# Altium footprint library NICELO_ED01r2.PcbLib: 28 footprints (part 1 of 2)
Each footprint in its own frame and in the unit in brackets; x right, y up, seen from the top. Pads: shape width x height; smd on the part's side, far side on the other; paste and mask are expansions set on the pad; w line width, h text height; cw(c..) or ccw(c..) is an arc to the next point about the centre after c.
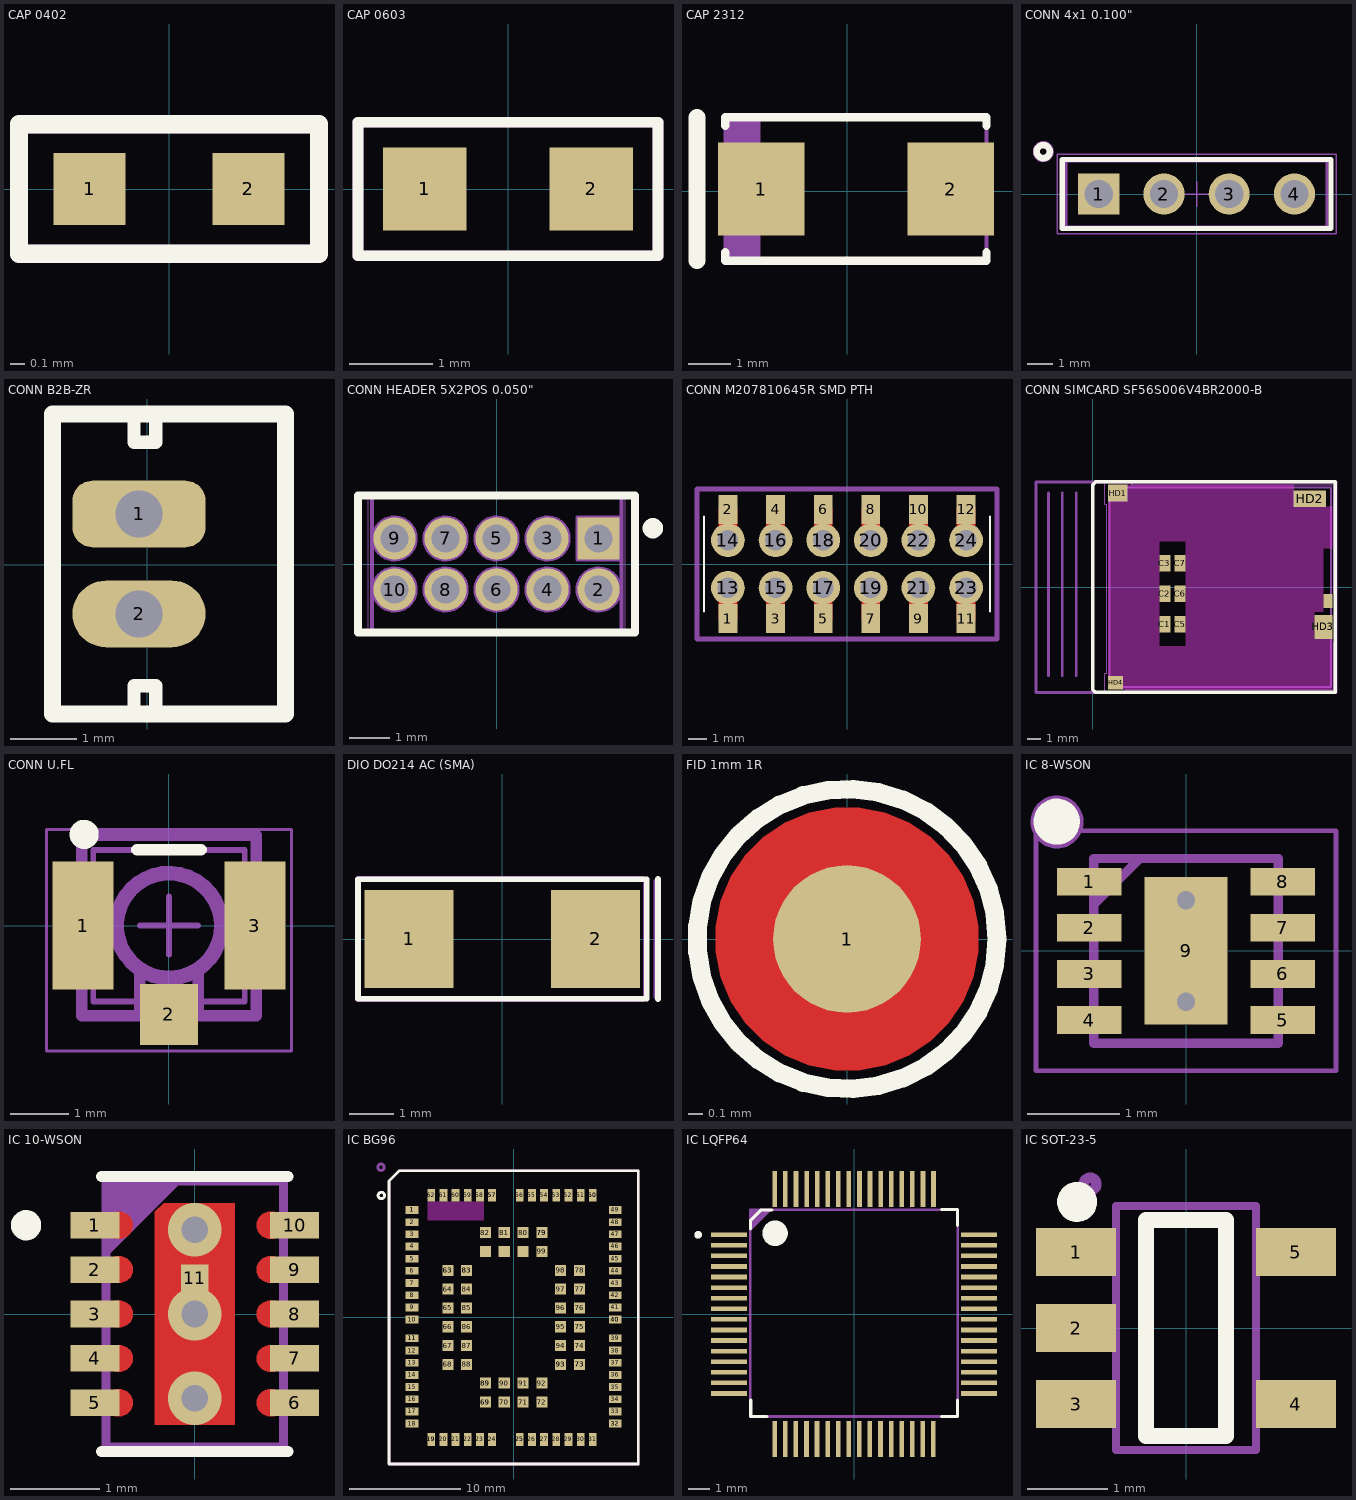
[diagram p0: the footprints below, top view; thin cyan lines are the x and y axes]

## CAP 0402 [mm]
pads (2):
  rect 0.5x0.5 smd mask+0.1: 1(-0.55,0) 2(0.55,0)
Top Overlay:
  lines w0.127: -1.04,-0.45 1.04,-0.45 1.04,0.45 -1.04,0.45 -1.04,-0.45
Top Assembly:
  lines w0.127: -1.04,-0.45 1.04,-0.45 1.04,0.45 -1.04,0.45 -1.04,-0.45
  text "'.Designator'" at -0.965,-0.152 h0.7
3D body "Capacitor_0402.stp": height 0.56, standoff 0.01, extent -0.525,-0.271 0.525,0.279
3D body: height 0.25, standoff 0, extent 0,0 0,0

## CAP 0603 [mm]
pads (2):
  rect 1x1 smd mask+0.1: 1(-1,0) 2(1,0)
Top Overlay:
  lines w0.127: -1.8,-0.8 1.8,-0.8 1.8,0.8 -1.8,0.8 -1.8,-0.8
Top Assembly:
  lines w0.127: -1.8,-0.8 -1.8,0.8 1.8,0.8 1.8,-0.8 -1.8,-0.8
  text "'.Designator'" at -1.676,-0.178 h1.27
3D body "capacitor_0603.stp": height 0.88, standoff 0.01, extent -0.875,-0.467 0.875,0.483

## CAP 2312 [mm]
pads (2):
  rect 2.05x2.2 smd: 1(-2.047,0.051) 2(2.453,0.051)
Top Overlay:
  lines w0.2: -2.897,-1.449 -2.897,-1.649 3.303,-1.649 3.303,-1.449 ; -2.897,1.551 -2.897,1.751 3.303,1.751 3.303,1.551
  lines w0.4: -3.572,-1.649 -3.572,1.751
Top Assembly:
  rectangle: -2.897,-1.649 -2.063,1.751
  lines w0.1: -2.897,-1.649 -2.897,1.751 3.303,1.751 3.303,-1.649 -2.897,-1.649
  text "'.Designator'" at -2.667,-0.254 h1.27
3D body "CAPMP6032X28L.step": height 2.8, standoff 0, extent -3.117,-1.649 3.523,1.751

## CONN 4x1 0.100" [mm]
pads (4):
  rect 1.6x1.6 hole 1.1 paste+0: 1(-3.81,0)
  round 1.6 hole 1.1: 2(-1.27,0) 3(1.27,0) 4(3.81,0)
Top Overlay:
  circle w0.254: c-5.969,1.651 r0.254
  lines w0.2: -5.23,-1.345 -5.23,1.345 5.23,1.345 5.23,-1.345 -5.23,-1.345
Mechanical 13:
  lines w0.1: -5.08,-1.27 5.08,-1.27 5.08,1.27 -5.08,1.27 -5.08,-1.27
Top Assembly:
  circle w0.254: c-5.969,1.651 r0.284
  lines w0.05: -0.5,0 0.5,0 ; 0,-0.5 0,0.5 ; -5.43,-1.545 5.43,-1.545 5.43,1.545 -5.43,1.545 -5.43,-1.545
  text "'.Designator'" at -4.826,-0.508 h2
3D body "61300411121.stp": height 8.57, standoff -2.97, extent -5.08,-1.27 5.08,1.27

## CONN B2B-ZR [mm]
pads (2):
  rrect60% 2x1 hole 0.7: 1(-0.127,0.762)
  oval 2x1 hole 0.7: 2(-0.127,-0.738)
Top Overlay:
  lines w0.2: -0.203,-2.239 -0.203,-1.816 0.123,-1.816 0.123,-2.238 ; -0.203,2.261 -0.203,1.838 0.123,1.838 0.123,2.262
  lines w0.254: -1.427,-2.238 2.073,-2.238 2.073,2.262 -1.427,2.262 -1.427,-2.238
Top Assembly:
  lines w0.127: -0.202,-2.238 -0.202,-1.788 ; -0.202,1.812 -0.202,2.262 ; -1.427,-2.238 2.073,-2.238 2.073,2.262 -1.427,2.262 -1.427,-2.238
  text "'.Designator'" at -1.277,-0.463 h1.27
3D body "B2B-ZR(LF)(SN).step": height 4.51, standoff -2.69, extent -1.427,-2.238 2.073,2.262

## CONN HEADER 5X2POS 0.050" [mm]
pads (10):
  rect 1.05x1.05 hole 0.7 mask+0: 1(2.54,0.635)
  round 1.05 hole 0.7 mask+0: 2(2.54,-0.635) 3(1.27,0.635) 4(1.27,-0.635) 5(0,0.635) 6(0,-0.635) 7(-1.27,0.635) 8(-1.27,-0.635) 9(-2.54,0.635) 10(-2.54,-0.635)
Top Overlay:
  circle w0.254: c3.89,0.89 r0.127
  lines w0.2: -3.45,-1.7 3.45,-1.7 3.45,1.7 -3.45,1.7 -3.45,-1.7
Mechanical 1:
  circle w0.1: c-2.54,-0.635 r0.525
  circle w0.1: c-2.54,0.635 r0.525
  circle w0.1: c-1.27,-0.635 r0.525
  circle w0.1: c-1.27,0.635 r0.525
  circle w0.1: c0,-0.635 r0.525
  circle w0.1: c0,0.635 r0.525
  circle w0.1: c1.27,-0.635 r0.525
  circle w0.1: c1.27,0.635 r0.525
  circle w0.1: c2.54,-0.635 r0.525
  lines w0.1: -3.105,-1.714 3.105,-1.714 3.105,1.715 -3.105,1.715 -3.105,-1.714 ; 2.015,0.11 2.015,1.16 3.065,1.16 3.065,0.11 2.015,0.11
Mechanical 16:
  lines w0.001: -3.2,-1.714 3.2,-1.714 3.2,1.715 -3.2,1.715 -3.2,-1.714
Top Assembly:
  lines w0.127: -3.45,-1.701 -3.45,1.703 3.459,1.703 3.459,-1.701 -3.45,-1.701
  text "'.Designator'" at -3.12,-0.38 h1.27
3D body "FTSH-105-04-L-D.stp": height 6.34, standoff -2.27, extent -3.16,-1.719 3.19,1.71

## CONN M207810645R SMD PTH [mm]
pads (24):
  rect 1x1.56 smd: 1(-6.35,-2.91) 2(-6.35,2.91) 3(-3.81,-2.91) 4(-3.81,2.91) 5(-1.27,-2.91) 6(-1.27,2.91) 7(1.27,-2.91) 8(1.27,2.91) 9(3.81,-2.91) 10(3.81,2.91) 11(6.35,-2.91) 12(6.35,2.91)
  round 1.8 hole 1.1: 13(-6.35,-1.27) 14(-6.35,1.27) 15(-3.81,-1.27) 16(-3.81,1.27) 17(-1.27,-1.27) 18(-1.27,1.27) 19(1.27,-1.27) 20(1.27,1.27) 21(3.81,-1.27) 22(3.81,1.27) 23(6.35,-1.27) 24(6.35,1.27)
Top Layer:
  lines w1: -6.35,-2.91 -6.35,-1.27 -6.35,-1.46 ; -6.35,1.27 -6.35,2.91 ; -3.81,-2.91 -3.81,-1.27 ; -3.81,1.27 -3.81,2.91 ; -1.27,-2.91 -1.27,-1.27 ; -1.27,1.27 -1.27,2.91 ; 1.27,-2.91 1.27,-1.27 ; 1.27,1.27 1.27,2.91 ; 3.81,-2.91 3.81,-1.27 ; 3.81,1.27 3.81,2.91 ; 6.35,-2.91 6.35,-1.27 ; 6.35,1.27 6.35,2.91
Top Overlay:
  lines w0.1: -7.62,-2.54 -7.62,2.54 ; 7.62,-2.54 7.62,2.54
Top Assembly:
  lines w0.254: -8,-4 8,-4 8,4 -8,4 -8,-4
  text "'.Designator'" at -7.366,0 h2
3D body "M20-7810645R.stp": height 3.1, standoff -1.7, extent -7.62,-3.698 7.62,3.698

## CONN SIMCARD SF56S006V4BR2000-B [mm]
pads (11):
  rect 0.8x1.2 smd mask+0.025: C1(5.21,-2.66) C2(5.21,-0.47) C3(5.21,1.72) C5(6.31,-2.66) C6(6.31,-0.47) C7(6.31,1.72)
  rect 0.65x1 smd: DSW2(16.975,-1)
  rect 1.4x1.2 smd: HD1(1.8,6.8)
  rect 2.35x1.2 smd: HD2(15.675,6.4)
  rect 1.3x1.75 smd: HD3(16.65,-2.87)
  rect 1.1x1 smd: HD4(1.65,-6.9)
Top Layer keep-out:
  rectangle: 13.05,-1.8 16.65,2.8
  rectangle: 6.71,-3.72 11.71,2.8
  region: 4.81,-4.27 4.81,3.33 1.31,3.33 1.31,-4.27
  region: 1.31,-4.27 1.31,-4.27 1.31,-4.27 1.31,-4.27
  region: 5.606,10.458
  region: 5.837,10.954
  region: 1.1,6.2 1.1,3.33 6.71,3.33 6.71,2.8 17.3,2.8 17.3,5.8 14.5,5.8 14.5,7.4 2.5,7.4 2.5,6.2
  region: 1.31,3.33 1.1,3.33 1.1,-6.4 2.2,-6.4 2.2,-7.4 17.3,-7.4 17.3,-3.745 16,-3.745 16,-1.8 13.05,-1.8 13.05,2.8 11.71,2.8 11.71,-3.72 6.71,-3.72 6.71,-4.27 1.31,-4.27
Top Overlay:
  lines w0.254: 0,-7.4 0,7.4 0.05,7.45 0.15,7.55 0.2,7.6 17.5,7.6 17.5,-7.6 13.175,-7.6 4.525,-7.6 0.2,-7.6 0,-7.4
Mechanical 4:
  lines w0.127: 1.2,-7.2 17.2,-7.2 ; 1.2,-7.2 17.2,-7.2 ; 1.2,-7.2 1.2,7.2 ; 1.2,-7.2 1.2,7.2 ; 1.2,7.2 17.2,7.2 ; 1.2,7.2 17.2,7.2 ; 17.2,-7.2 17.2,7.2 ; 17.2,-7.2 17.2,7.2
Mechanical 16:
  lines w0.05: 0.85,-7.6 2.4,-7.6 2.4,-7.4 17.4,-7.4 17.4,-4 17.55,-4 17.55,-0.4 17.4,-0.4 17.4,7.4 2.8,7.4 2.8,7.6 0.85,7.6 0.85,6 1,6 1,-6.2 0.85,-6.2 0.85,-7.6
Top Assembly:
  lines w0.2: -3.2,-6.4 -3.2,6.8 ; -2.2,-6.4 -2.2,6.8 ; -1.2,-6.4 -1.2,6.8 ; 0,-7.6 0,7.6 ; 0,-7.6 -4.1,-7.6 -4.1,7.6 0,7.6 ; 0,-7.6 17.562,-7.6 17.562,7.6 0,7.6
  text "'.Designator'" at 6.31,-0.47 h1.27
3D body: height 1.25, standoff 0, extent 1.276,-7.2 17.2,7.2

## CONN U.FL [mm]
pads (3):
  rect 1.05x2.2 smd: 1(-1.475,0) 3(1.475,0)
  rect 1x1.05 smd: 2(0,-1.525)
Top Overlay:
  circle w0.25: c-1.457,1.565 r0.125
  lines w0.2: -0.55,1.3 0.55,1.3
Mechanical 13:
  lines w0.1: -1.3,-1.3 1.3,-1.3 1.3,1.3 -1.3,1.3 -1.3,-1.3
Mechanical 15:
  lines w0.05: -2.1,-2.15 2.1,-2.15 2.1,1.65 -2.1,1.65 -2.1,-2.15
  lines w0.1: -0.5,0 0.5,0
Top Assembly:
  circle w0.254: c0,0 r0.9
  lines w0.1: 0,-0.5 0,0.5
  lines w0.2: -0.5,-0.748 -0.5,-1.525 0.5,-1.525 0.5,-0.748 ; 1.475,-1.55 -1.5,-1.55 -1.5,1.55 1.5,1.55 1.5,-1.55
  text "'.Designator'" at -3.937,-0.38 h1.52
3D body "c-1909763-1-b-3d.stp": height 1.23, standoff 0, extent -1.5,-1.55 1.5,1.55

## DIO DO214 AC (SMA) [mm]
pads (2):
  rect 2x2.2 smd mask+0.1: 1(-2.1,0) 2(2.1,0)
Top Overlay:
  lines w0.127: 3.505,-1.35 3.505,1.35 ; -3.251,-1.344 3.252,-1.35 3.252,1.343 3.252,1.348 -3.251,1.348 -3.251,-1.344
Top Assembly:
  lines w0.127: -3.251,-1.35 3.15,-1.35 ; -3.251,-1.348 -3.251,1.348 ; -3.251,1.35 3.15,1.35 ; 3.226,-1.295 3.226,1.249 ; 3.47,-1.3 3.47,1.3
  text "'.Designator'" at -3.023,-0.356 h1.27
3D body: height 6, standoff 1, extent -2.2,-0.85 -2.2,-0.85
3D body "DO214AC_SMA.STEP": height 2.3, standoff 0.01, extent -2.743,-1.397 2.743,1.397

## FID 1mm 1R [mm]
pads (1):
  round 1 smd paste-1: 1(0,0)
Top Layer:
  pour cut-out: 0,-0.889 -0.088,-0.889 -0.259,-0.855 -0.421,-0.788 -0.567,-0.691 -0.691,-0.567 -0.788,-0.421 -0.855,-0.259 -0.889,-0.088 -0.889,0 -0.889,0.088 -0.855,0.259 -0.788,0.421 -0.691,0.567 -0.567,0.691 -0.421,0.788 -0.259,0.855 -0.088,0.889 0,0.889 0.088,0.889 0.259,0.855 0.421,0.788 0.567,0.691 0.691,0.567 0.788,0.421 0.855,0.259 0.889,0.088 0.889,0 0.889,-0.088 0.855,-0.259 0.788,-0.421 0.691,-0.567 0.567,-0.691 0.421,-0.788 0.259,-0.855 0.088,-0.889
Top Overlay:
  circle w0.127: c0,0 r1.016
Top Solder:
  circle w0.152: c0,0 r0.813
  region: 0,-0.813 -0.08,-0.813 -0.237,-0.782 -0.385,-0.72 -0.518,-0.631 -0.631,-0.518 -0.72,-0.385 -0.782,-0.237 -0.813,-0.08 -0.813,0 -0.813,0.08 -0.782,0.237 -0.72,0.385 -0.631,0.518 -0.518,0.631 -0.385,0.72 -0.237,0.782 -0.08,0.813 0,0.813 0.08,0.813 0.237,0.782 0.385,0.72 0.518,0.631 0.631,0.518 0.72,0.385 0.782,0.237 0.813,0.08 0.813,0 0.813,-0.08 0.782,-0.237 0.72,-0.385 0.631,-0.518 0.518,-0.631 0.385,-0.72 0.237,-0.782 0.08,-0.813
Top Assembly:
  text "'.Designator'" at -3.81,-0.38 h1.52

## IC 8-WSON [mm]
pads (9):
  rect 0.7x0.3 smd mask+0: 1(-1.05,0.75) 2(-1.05,0.25) 3(-1.05,-0.25) 4(-1.05,-0.75) 5(1.05,-0.75) 6(1.05,-0.25) 7(1.05,0.25) 8(1.05,0.75)
  rect 0.9x1.6 smd paste+0 mask+0: 9(0,0)
via 0,0.55 diameter 0.4 hole 0.2
via 0,-0.55 diameter 0.4 hole 0.2
Top Overlay:
  circle w0.25: c-1.4,1.4 r0.125
Mechanical 13:
  lines w0.1: -1,0.5 -0.5,1 ; -1,-1 1,-1 1,1 -1,1 -1,-1
Top Assembly:
  circle w0.254: c-1.397,1.397 r0.16
  lines w0.05: -1.625,-1.3 1.625,-1.3 1.625,1.3 -1.625,1.3 -1.625,-1.3
  text "'.Designator'" at -3.81,-0.254 h1.27
3D body "TPS22965DSGR.stp": height 0.8, standoff 0, extent -1.05,-1 1.05,1

## IC 10-WSON [mm]
pads (12):
  rect 0.55x0.3 smd mask+0: 1(-1.125,1) 2(-1.125,0.5) 3(-1.125,0) 4(-1.125,-0.5) 5(-1.125,-1) 6(1.125,-1) 7(1.125,-0.5) 8(1.125,0) 9(1.125,0.5) 10(1.125,1)
  rect 0.31x0.31 smd paste-10 mask+0: 11(0,0.4)
  rect 0.1x0.1 smd: 11(0,0.4)
via 0,0 diameter 0.6 hole 0.3
via 0,0.95 diameter 0.6 hole 0.3
via 0,-0.95 diameter 0.6 hole 0.3
Top Layer:
  region: -0.85,1
  region: -0.45,1.15 -0.35,1.25 0.45,1.25 0.45,-1.25 -0.45,-1.25
  region: -1.05,-0.5
  region: -0.7,-1 -0.7,-0.97 -0.723,-0.915 -0.765,-0.873 -0.82,-0.85 -0.85,-0.85 -0.9,-0.85 -0.9,-1.15 -0.85,-1.15 -0.82,-1.15 -0.765,-1.127 -0.723,-1.085 -0.7,-1.03
  region: -0.7,-0.5 -0.7,-0.47 -0.723,-0.415 -0.765,-0.373 -0.82,-0.35 -0.85,-0.35 -0.9,-0.35 -0.9,-0.65 -0.85,-0.65 -0.82,-0.65 -0.765,-0.627 -0.723,-0.585 -0.7,-0.53
  region: -0.7,0 -0.7,0.03 -0.723,0.085 -0.765,0.127 -0.82,0.15 -0.85,0.15 -0.9,0.15 -0.9,-0.15 -0.85,-0.15 -0.82,-0.15 -0.765,-0.127 -0.723,-0.085 -0.7,-0.03
  region: -0.7,0.5 -0.7,0.53 -0.723,0.585 -0.765,0.627 -0.82,0.65 -0.85,0.65 -0.9,0.65 -0.9,0.35 -0.85,0.35 -0.82,0.35 -0.765,0.373 -0.723,0.415 -0.7,0.47
  region: -0.7,1 -0.7,1.03 -0.723,1.085 -0.765,1.127 -0.82,1.15 -0.85,1.15 -0.9,1.15 -0.9,0.85 -0.85,0.85 -0.82,0.85 -0.765,0.873 -0.723,0.915 -0.7,0.97
  region: 0.7,-1 0.7,-1.03 0.723,-1.085 0.765,-1.127 0.82,-1.15 0.85,-1.15 0.9,-1.15 0.9,-0.85 0.85,-0.85 0.82,-0.85 0.765,-0.873 0.723,-0.915 0.7,-0.97
  region: 0.7,-0.5 0.7,-0.53 0.723,-0.585 0.765,-0.627 0.82,-0.65 0.85,-0.65 0.9,-0.65 0.9,-0.35 0.85,-0.35 0.82,-0.35 0.765,-0.373 0.723,-0.415 0.7,-0.47
  region: 0.7,0 0.7,-0.03 0.723,-0.085 0.765,-0.127 0.82,-0.15 0.85,-0.15 0.9,-0.15 0.9,0.15 0.85,0.15 0.82,0.15 0.765,0.127 0.723,0.085 0.7,0.03
  region: 0.7,0.5 0.7,0.47 0.723,0.415 0.765,0.373 0.82,0.35 0.85,0.35 0.9,0.35 0.9,0.65 0.85,0.65 0.82,0.65 0.765,0.627 0.723,0.585 0.7,0.53
  region: 0.7,1 0.7,0.97 0.723,0.915 0.765,0.873 0.82,0.85 0.85,0.85 0.9,0.85 0.9,1.15 0.85,1.15 0.82,1.15 0.765,1.127 0.723,1.085 0.7,1.03
Top Overlay:
  circle w0.18: c-1.9,1 r0.08
  lines w0.127: -1.05,-1.55 1.05,-1.55 ; -1.05,1.55 1.05,1.55
Top Solder:
  region: -0.45,1.15 -0.35,1.25 0.45,1.25 0.45,-1.25 -0.45,-1.25
Top Assembly:
  lines w0.1: -1,0.7 -0.2,1.5 ; -1,0.8 -0.3,1.5 ; -1,0.9 -0.4,1.5 ; -1,1 -0.5,1.5 ; -1,1.1 -0.6,1.5 ; -1,1.2 -0.7,1.5 ; -1,1.3 -0.8,1.5 ; -1,1.4 -0.9,1.5 ; -1,-1.5 -1,1.5 1,1.5 1,-1.5 -1,-1.5
  text "'.Designator'" at -3.556,-0.127 h1.27
3D body: height 0.8, standoff 0, extent -1.05,-1.55 1.05,1.55

## IC BG96 [mm]
pads (117):
  rect 1.15x0.7 smd: 1(-9.18,9.7) 1(-9.18,9.7) 2(-9.18,8.6) 3(-9.18,7.5) 4(-9.18,6.4) 5(-9.18,5.3) 6(-9.18,4.2) 7(-9.18,3.1) 8(-9.18,2) 9(-9.18,0.9) 10(-9.18,-0.2) 11(-9.18,-1.9) 11(-9.18,-1.9) 12(-9.18,-3) 13(-9.18,-4.1) 14(-9.18,-5.2) 15(-9.18,-6.3) 16(-9.18,-7.4) 17(-9.18,-8.5) 18(-9.18,-9.6) 32(9.18,-9.6) 32(9.18,-9.6) 33(9.18,-8.5) 34(9.18,-7.4) 35(9.18,-6.3) 36(9.18,-5.2) 37(9.18,-4.1) 38(9.18,-3) 39(9.18,-1.9) 40(9.18,-0.2) 40(9.18,-0.2) 41(9.18,0.9) 42(9.18,2) 43(9.18,3.1) 44(9.18,4.2) 45(9.18,5.3) 46(9.18,6.4) 47(9.18,7.5) 48(9.18,8.6) 49(9.18,9.7)
  rect 0.7x1.15 smd: 19(-7.45,-11.03) 19(-7.45,-11.03) 20(-6.35,-11.03) 21(-5.25,-11.03) 22(-4.15,-11.03) 23(-3.05,-11.03) 24(-1.95,-11.03) 25(0.55,-11.03) 25(0.55,-11.03) 26(1.65,-11.03) 27(2.75,-11.03) 28(3.85,-11.03) 29(4.95,-11.03) 30(6.05,-11.03) 31(7.15,-11.03) 50(7.15,11.03) 50(7.15,11.03) 51(6.05,11.03) 52(4.95,11.03) 53(3.85,11.03) 54(2.75,11.03) 55(1.65,11.03) 56(0.55,11.03) 57(-1.95,11.03) 57(-1.95,11.03) 58(-3.05,11.03) 59(-4.15,11.03) 60(-5.25,11.03) 61(-6.35,11.03) 62(-7.45,11.03)
  rect 1x1 smd: 63(-5.95,4.25) 63(-5.95,4.25) 64(-5.95,2.55) 65(-5.95,0.85) 66(-5.95,-0.85) 67(-5.95,-2.55) 68(-5.95,-4.25) 69(-2.55,-7.65) 69(-2.55,-7.65) 70(-0.85,-7.65) 71(0.85,-7.65) 72(2.55,-7.65) 73(5.95,-4.25) 73(5.95,-4.25) 74(5.95,-2.55) 75(5.95,-0.85) 76(5.95,0.85) 77(5.95,2.55) 78(5.95,4.25) 79(2.55,7.65) 79(2.55,7.65) 80(0.85,7.65) 81(-0.85,7.65) 82(-2.55,7.65) 83(-4.25,4.25) 83(-4.25,4.25) 84(-4.25,2.55) 85(-4.25,0.85) 86(-4.25,-0.85) 87(-4.25,-2.55) 88(-4.25,-4.25) 89(-2.55,-5.95) 89(-2.55,-5.95) 90(-0.85,-5.95) 91(0.85,-5.95) 92(2.55,-5.95) 93(4.25,-4.25) 93(4.25,-4.25) 94(4.25,-2.55) 95(4.25,-0.85) 96(4.25,0.85) 97(4.25,2.55) 98(4.25,4.25) 99(2.55,5.95) 100(0.85,5.95) 101(-0.85,5.95) 102(-2.55,5.95)
Top Layer keep-out:
  region: -2.7,8.75 -2.7,10.455 -7.8,10.455 -7.8,8.75
Top Overlay:
  circle w0.254: c-11.955,11.011 r0.29
  lines w0.254: -11.25,11.151 -11.25,11.169 ; -11.25,-13.25 11.25,-13.25 11.25,13.25 -10.33,13.25 -11.25,12.33 -11.25,-13.25
Top Assembly:
  circle w0.254: c-11.987,13.564 r0.29
  lines w0.254: -11.248,-13.25 -11.248,12.33 -10.328,13.25 11.252,13.25 11.252,-13.25 -11.248,-13.25
  text "'.Designator'" at -6.985,-0.762 h3

## IC LQFP64 [mm]
pads (64):
  rect 1.7x0.22 smd mask+0.051: 1(-5.901,3.747) 2(-5.901,3.247) 3(-5.901,2.747) 4(-5.901,2.247) 5(-5.901,1.747) 6(-5.901,1.247) 7(-5.901,0.747) 8(-5.901,0.247) 9(-5.901,-0.253) 10(-5.901,-0.753) 11(-5.901,-1.253) 12(-5.901,-1.753) 13(-5.901,-2.253) 14(-5.901,-2.753) 15(-5.901,-3.253) 16(-5.901,-3.753) 33(5.901,-3.753) 34(5.901,-3.253) 35(5.901,-2.753) 36(5.901,-2.253) 37(5.901,-1.753) 38(5.901,-1.253) 39(5.901,-0.753) 40(5.901,-0.253) 41(5.901,0.247) 42(5.901,0.747) 43(5.901,1.247) 44(5.901,1.747) 45(5.901,2.247) 46(5.901,2.747) 47(5.901,3.247) 48(5.901,3.746)
  rect 0.22x1.7 smd mask+0.051: 17(-3.753,-5.901) 18(-3.253,-5.901) 19(-2.753,-5.901) 20(-2.253,-5.901) 21(-1.753,-5.901) 22(-1.253,-5.901) 23(-0.753,-5.901) 24(-0.253,-5.901) 25(0.247,-5.901) 26(0.747,-5.901) 27(1.247,-5.901) 28(1.747,-5.901) 29(2.247,-5.901) 30(2.747,-5.901) 31(3.247,-5.901) 32(3.746,-5.901) 49(3.753,5.902) 50(3.253,5.902) 51(2.753,5.902) 52(2.253,5.902) 53(1.753,5.902) 54(1.253,5.902) 55(0.753,5.902) 56(0.253,5.902) 57(-0.247,5.902) 58(-0.747,5.902) 59(-1.247,5.902) 60(-1.747,5.902) 61(-2.247,5.902) 62(-2.747,5.902) 63(-3.247,5.902) 64(-3.746,5.902)
Top Overlay:
  circle w0.25: c-7.366,3.742 r0.059
  circle w0.6: c-3.734,3.815 r0.3
  lines w0.152: -4.902,4.028 -4.902,4.409 -4.394,4.917 -3.886,4.917 ; -4.889,-4.079 -4.889,-4.841 -4.127,-4.841 ; 4.127,-4.841 4.889,-4.841 4.889,-4.079 ; 4.127,4.938 4.889,4.938 4.889,4.176
Top Assembly:
  region: -4.902,4.933 -4.902,3.901 -3.886,4.917
  lines w0.127: -4.902,-4.846 4.902,-4.846 4.902,4.933 -4.902,4.933 -4.902,-4.846
  text "'.Designator'" at -3.607,-0.477 h1.27
3D body "LQFP-64.step": height 1.51, standoff 0.01, extent -6,-6 6,6
3D body: height 6, standoff 1, extent -2.784,0.121 -2.784,0.121

## IC SOT-23-5 [mm]
pads (5):
  rect 1x0.6 smd mask+0.025: 1(-1.375,0.95) 2(-1.375,0) 3(-1.375,-0.95) 4(1.375,-0.95) 5(1.375,0.95)
Top Overlay:
  circle w0.25: c-1.362,1.579 r0.125
  lines w0.2: -0.5,-1.35 -0.5,1.35 0.5,1.35 0.5,-1.35 -0.5,-1.35
Top Assembly:
  circle w0.13: c-1.2,1.8 r0.08
  lines w0.1: -0.875,-1.525 0.875,-1.525 0.875,1.525 -0.875,1.525 -0.875,-1.525
  text "'.Designator'" at -0.508,-0.254 h1.27
3D body "SOT-23-5.step": height 1.11, standoff 0.01, extent -1.25,-1.5 1.25,1.5